# EAGLE library part SN65LVEL11 (library NewSDR)
3.3V ECL 1:2 Fanout Buffer The SN65LVEL11 is a fully differential 1:2 ECL fanout buffer.
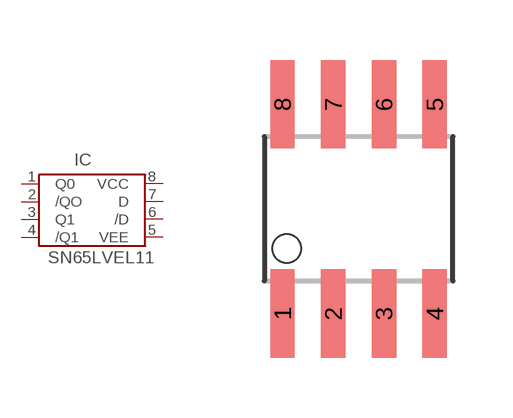
[diagram p104: symbol with the pads of SO8; footprint SO8]

Designator prefix IC

## SN65LVEL11  [SO8]
1  Q0
2  /QO
3  Q1
4  /Q1
5  VEE  pwr
6  /D
7  D
8  VCC  pwr

## Footprint SO8 (pad centres in mm)
smd 0.61 x 2.21: 1 -1.905,-2.616; 2 -0.635,-2.616; 3 0.635,-2.616; 4 1.905,-2.616; 5 1.905,2.616; 6 0.635,2.616; 7 -0.635,2.616; 8 -1.905,2.616